# EAGLE library part LVDS (library libami)
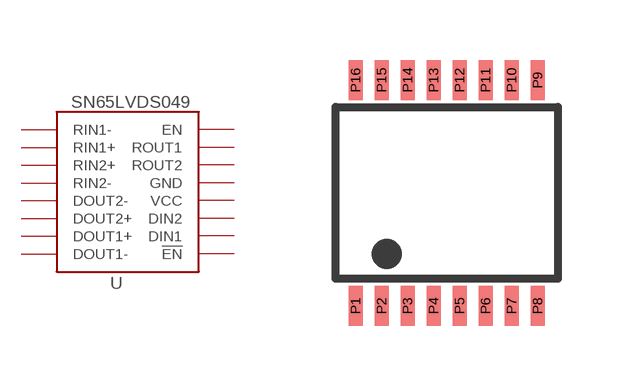
[diagram p21: symbol with the pads of TSSOP16; footprint TSSOP16]

Designator prefix -

## LVDS  [TSSOP16]
P1  RIN1-
P2  RIN1+
P3  RIN2+
P4  RIN2-
P5  DOUT2-
P6  DOUT2+
P7  DOUT1+
P8  DOUT1-
P9  !EN!
P10  DIN1
P11  DIN2
P12  VCC
P13  GND
P14  ROUT1
P15  ROUT2
P16  EN

## Footprint TSSOP16 (pad centres in mm)
14-Lead Plastic Thin Shrink Small Outline (ST) - 4.4 mm Body TSSOP Source: http://ww1.microchip.com/downloads/en/DeviceDoc/40039E.pdf
smd 0.35 x 1: P1 -2.6,-2.825; P2 -1.95,-2.825; P3 -1.3,-2.825; P4 -0.65,-2.825; P5 0,-2.825; P6 0.65,-2.825; P7 1.3,-2.825; P8 1.95,-2.825; P9 1.95,2.825; P10 1.3,2.825; P11 0.65,2.825; P12 0,2.825; P13 -0.65,2.825; P14 -1.3,2.825; P15 -1.95,2.825; P16 -2.6,2.825